# Altium footprint library IntegratedCircuites.PcbLib: 74 footprints (part 5 of 5)
Each footprint in its own frame and in the unit in brackets; x right, y up, seen from the top. Pads: shape width x height; smd on the part's side, far side on the other; paste and mask are expansions set on the pad; w line width, h text height; cw(c..) or ccw(c..) is an arc to the next point about the centre after c.
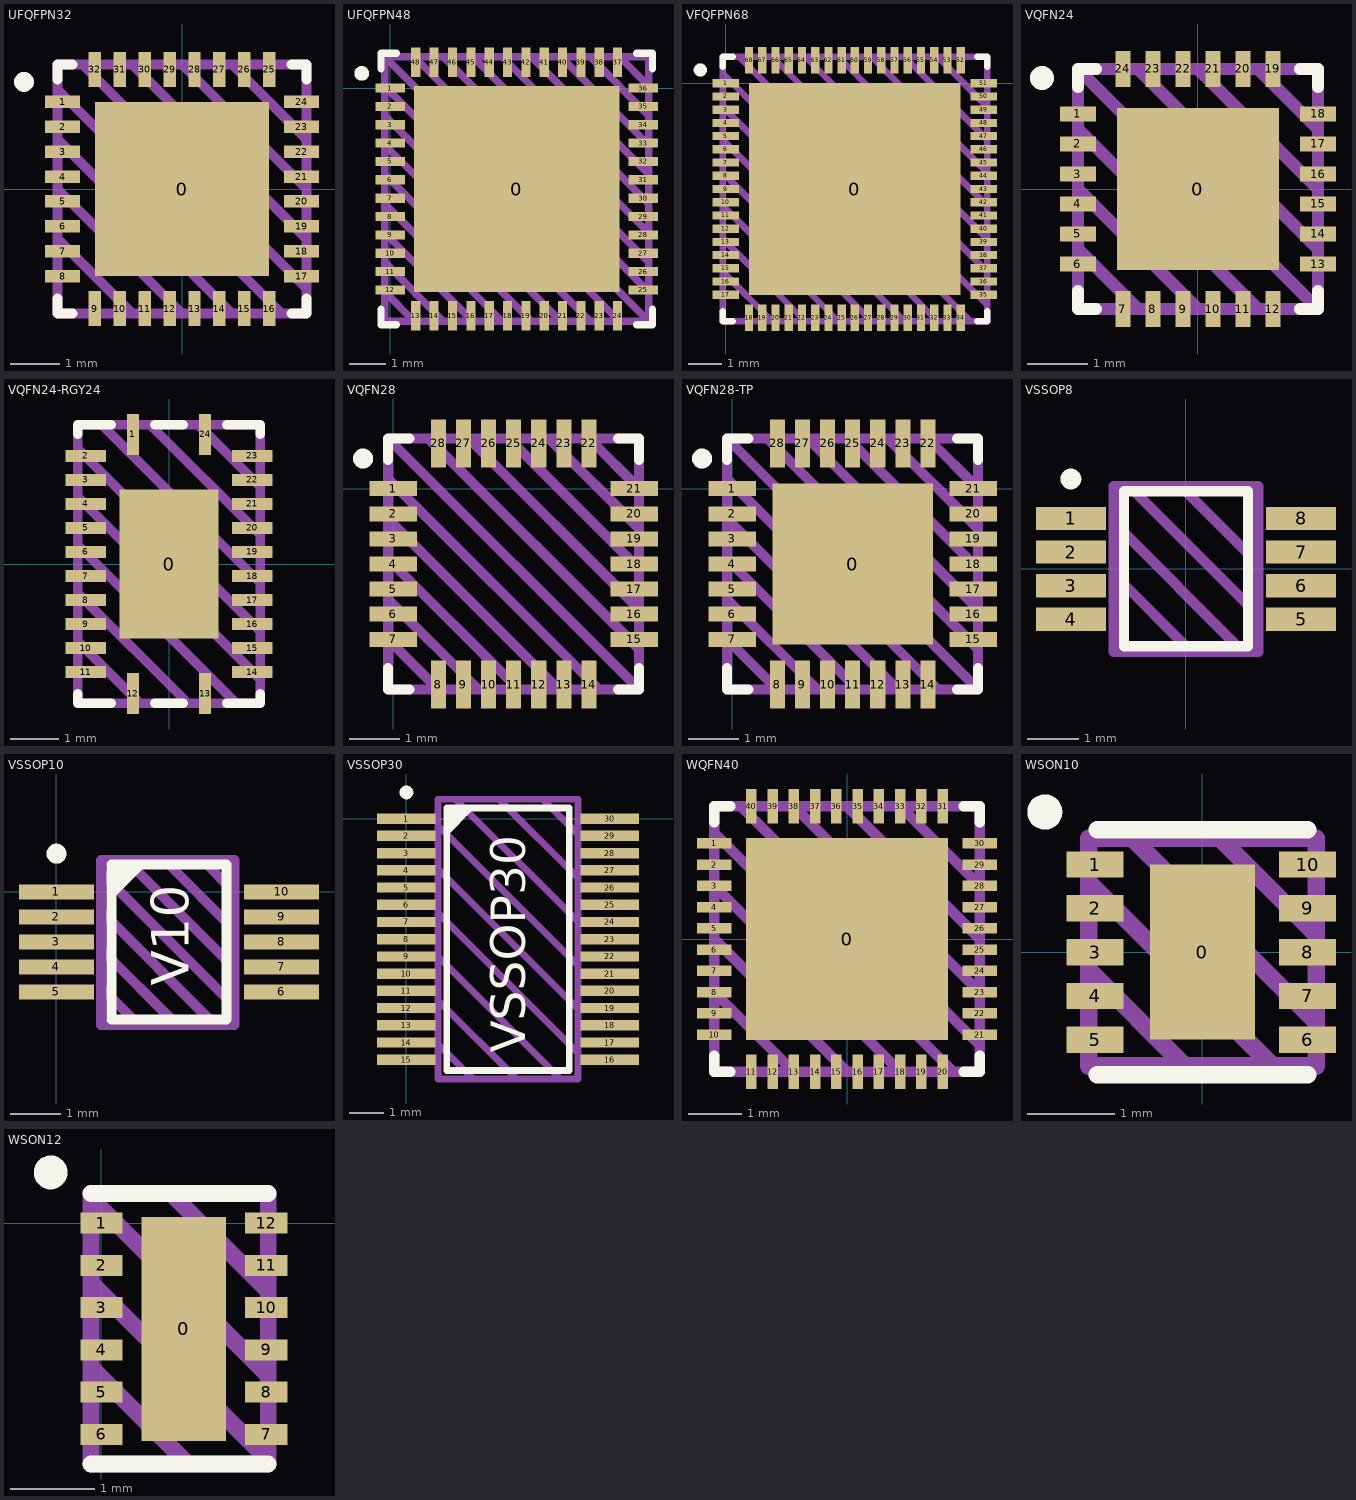
[diagram p4: the footprints below, top view; thin cyan lines are the x and y axes]

## UFQFPN32 [mm]
height 0.6
pads (33):
  rect 3.5x3.5 smd: 0(0,0)
  rect 0.7x0.25 smd: 1(-2.4,1.75) 2(-2.4,1.25) 3(-2.4,0.75) 4(-2.4,0.25) 5(-2.4,-0.25) 6(-2.4,-0.75) 7(-2.4,-1.25) 8(-2.4,-1.75) 17(2.4,-1.75) 18(2.4,-1.25) 19(2.4,-0.75) 20(2.4,-0.25) 21(2.4,0.25) 22(2.4,0.75) 23(2.4,1.25) 24(2.4,1.75)
  rect 0.25x0.7 smd: 9(-1.75,-2.4) 10(-1.25,-2.4) 11(-0.75,-2.4) 12(-0.25,-2.4) 13(0.25,-2.4) 14(0.75,-2.4) 15(1.25,-2.4) 16(1.75,-2.4) 25(1.75,2.4) 26(1.25,2.4) 27(0.75,2.4) 28(0.25,2.4) 29(-0.25,2.4) 30(-0.75,2.4) 31(-1.25,2.4) 32(-1.75,2.4)
Top Overlay:
  circle w0.2: c-3.175,2.15 r0.1
  lines w0.2: -2.5,-2.2 -2.5,-2.5 -2.2,-2.5 ; -2.5,2.2 -2.5,2.5 -2.2,2.5 ; 2.2,-2.5 2.5,-2.5 2.5,-2.2 ; 2.2,2.5 2.5,2.5 2.5,2.2
Top Draw:
  lines w0.2: -2.5,-1 -1,-2.5 ; -2.5,0 0,-2.5 ; -2.5,1 1,-2.5 ; -2.5,2 2,-2.5 ; -2,2.5 2.5,-2 ; -1,2.5 2.5,-1 ; 0,2.5 2.5,0 ; 1,2.5 2.5,1 ; -2.5,-2.5 -2.5,2.5 2.5,2.5 2.5,-2.5 -2.5,-2.5
Top Info:
  text "'.Comment'" at -2.549,-3.65 h0.6
3D body "QFN50P500X500X60_HS-33N.step": height 0.6, standoff 0, extent -2.51,-2.51 2.51,2.51

## UFQFPN48 [mm]
pads (49):
  rect 5.6x5.6 smd: 0(3.45,-2.75)
  rect 0.8x0.25 smd: 1(0,0) 2(0,-0.5) 3(0,-1) 4(0,-1.5) 5(0,-2) 6(0,-2.5) 7(0,-3) 8(0,-3.5) 9(0,-4) 10(0,-4.5) 11(0,-5) 12(0,-5.5) 25(6.9,-5.5) 26(6.9,-5) 27(6.9,-4.5) 28(6.9,-4) 29(6.9,-3.5) 30(6.9,-3) 31(6.9,-2.5) 32(6.9,-2) 33(6.9,-1.5) 34(6.9,-1) 35(6.9,-0.5) 36(6.9,0)
  rect 0.25x0.8 smd: 13(0.7,-6.2) 14(1.2,-6.2) 15(1.7,-6.2) 16(2.2,-6.2) 17(2.7,-6.2) 18(3.2,-6.2) 19(3.7,-6.2) 20(4.2,-6.2) 21(4.7,-6.2) 22(5.2,-6.2) 23(5.7,-6.2) 24(6.2,-6.2) 37(6.2,0.7) 38(5.7,0.7) 39(5.2,0.7) 40(4.7,0.7) 41(4.2,0.7) 42(3.7,0.7) 43(3.2,0.7) 44(2.7,0.7) 45(2.2,0.7) 46(1.7,0.7) 47(1.2,0.7) 48(0.7,0.7)
Top Overlay:
  circle w0.2: c-0.775,0.4 r0.1
  lines w0.2: -0.25,-6.025 -0.25,-6.45 0.175,-6.45 ; -0.25,0.525 -0.25,0.95 0.175,0.95 ; 6.725,-6.45 7.15,-6.45 7.15,-6.025 ; 6.725,0.95 7.15,0.95 7.15,0.525
Top Draw:
  lines w0.2: -0.15,-5.55 0.65,-6.35 ; -0.15,-4.75 1.45,-6.35 ; -0.15,-3.95 2.25,-6.35 ; -0.15,-3.15 3.05,-6.35 ; -0.15,-2.35 3.85,-6.35 ; -0.15,-1.55 4.65,-6.35 ; -0.15,-0.75 5.45,-6.35 ; -0.15,0.05 6.25,-6.35 ; 0.65,0.85 7.05,-5.55 ; 1.45,0.85 7.05,-4.75 ; 2.25,0.85 7.05,-3.95 ; 3.05,0.85 7.05,-3.15 ; 3.85,0.85 7.05,-2.35 ; 4.65,0.85 7.05,-1.55 ; 5.45,0.85 7.05,-0.75 ; 6.25,0.85 7.05,0.05 ; -0.15,0.85 -0.15,-6.35 7.05,-6.35 ; -0.15,0.85 7.05,0.85 7.05,-6.35 ; -0.15,0.85 7.05,-6.35
Top Info:
  text "'.Comment'" at 0.264,-7.787 h0.75
3D body "QFN50P700X700X60_HS-49N.step": height 0.6, standoff 0, extent -0.11,-6.31 7.01,0.81

## VFQFPN68 [mm]
height 1
pads (69):
  rect 6.4x6.4 smd: 0(3.9,-3.2)
  rect 0.8x0.25 smd: 1(0,0) 2(0,-0.4) 3(0,-0.8) 4(0,-1.2) 5(0,-1.6) 6(0,-2) 7(0,-2.4) 8(0,-2.8) 9(0,-3.2) 10(0,-3.6) 11(0,-4) 12(0,-4.4) 13(0,-4.8) 14(0,-5.2) 15(0,-5.6) 16(0,-6) 17(0,-6.4) 35(7.8,-6.4) 36(7.8,-6) 37(7.8,-5.6) 38(7.8,-5.2) 39(7.8,-4.8) 40(7.8,-4.4) 41(7.8,-4) 42(7.8,-3.6) 43(7.8,-3.2) 44(7.8,-2.8) 45(7.8,-2.4) 46(7.8,-2) 47(7.8,-1.6) 48(7.8,-1.2) 49(7.8,-0.8) 50(7.8,-0.4) 51(7.8,0)
  rect 0.25x0.8 smd: 18(0.7,-7.1) 19(1.1,-7.1) 20(1.5,-7.1) 21(1.9,-7.1) 22(2.3,-7.1) 23(2.7,-7.1) 24(3.1,-7.1) 25(3.5,-7.1) 26(3.9,-7.1) 27(4.3,-7.1) 28(4.7,-7.1) 29(5.1,-7.1) 30(5.5,-7.1) 31(5.9,-7.1) 32(6.3,-7.1) 33(6.7,-7.1) 34(7.1,-7.1) 52(7.1,0.7) 53(6.7,0.7) 54(6.3,0.7) 55(5.9,0.7) 56(5.5,0.7) 57(5.1,0.7) 58(4.7,0.7) 59(4.3,0.7) 60(3.9,0.7) 61(3.5,0.7) 62(3.1,0.7) 63(2.7,0.7) 64(2.3,0.7) 65(1.9,0.7) 66(1.5,0.7) 67(1.1,0.7) 68(0.7,0.7)
Top Overlay:
  circle w0.2: c-0.775,0.4 r0.1
  lines w0.2: -0.1,-6.9 -0.1,-7.2 0.2,-7.2 ; -0.1,0.5 -0.1,0.8 0.2,0.8 ; 7.6,-7.2 7.9,-7.2 7.9,-6.9 ; 7.6,0.8 7.9,0.8 7.9,0.5
Top Draw:
  lines w0.2: -0.1,-5.7 1.4,-7.2 ; -0.1,-4.7 2.4,-7.2 ; -0.1,-3.7 3.4,-7.2 ; -0.1,-2.7 4.4,-7.2 ; -0.1,-1.7 5.4,-7.2 ; -0.1,-0.7 6.4,-7.2 ; -0.1,0.3 7.4,-7.2 ; 0.4,0.8 7.9,-6.7 ; 1.4,0.8 7.9,-5.7 ; 2.4,0.8 7.9,-4.7 ; 3.4,0.8 7.9,-3.7 ; 4.4,0.8 7.9,-2.7 ; 5.4,0.8 7.9,-1.7 ; 6.4,0.8 7.9,-0.7 ; -0.1,-7.2 7.9,-7.2 7.9,0.8 -0.1,0.8 -0.1,-7.2
Top Info:
  text "'.Comment'" at 0.714,-8.637 h0.75
3D body "QFN40P800X800X100_HS-69N.step": height 1, standoff 0, extent -0.11,-7.21 7.91,0.81

## VQFN24 [mm]
height 1
pads (25):
  rect 2.7x2.7 smd: 0(0,0)
  rect 0.6x0.25 smd: 1(-2,1.25) 2(-2,0.75) 3(-2,0.25) 4(-2,-0.25) 5(-2,-0.75) 6(-2,-1.25) 13(2,-1.25) 14(2,-0.75) 15(2,-0.25) 16(2,0.25) 17(2,0.75) 18(2,1.25)
  rect 0.25x0.6 smd: 7(-1.25,-2) 8(-0.75,-2) 9(-0.25,-2) 10(0.25,-2) 11(0.75,-2) 12(1.25,-2) 19(1.25,2) 20(0.75,2) 21(0.25,2) 22(-0.25,2) 23(-0.75,2) 24(-1.25,2)
Top Overlay:
  circle w0.2: c-2.6,1.85 r0.1
  lines w0.2: -2,-1.7 -2,-2 -1.7,-2 ; -2,1.7 -2,2 -1.7,2 ; 1.7,-2 2,-2 2,-1.7 ; 1.7,2 2,2 2,1.7
Top Draw:
  lines w0.2: -2,-1 -1,-2 ; -2,0 0,-2 ; -2,1 1,-2 ; -1,2 2,-1 ; 0,2 2,0 ; 1,2 2,1 ; -2,2 2,2 2,-2 ; -2,2 -2,-2 2,-2 ; -2,2 2,-2
Top Info:
  text "'.Comment'" at -2.124,-3.092 h0.5
3D body "QFN50P400X400X100_HS-25N.step": height 1, standoff 0, extent -2.01,-2.01 2.01,2.01

## VQFN24-RGY24 [mm]
pads (25):
  rect 2.05x3.1 smd paste+0: 0(0,0)
  rect 0.25x0.85 smd paste+0: 1(-0.75,2.696) 12(-0.75,-2.696) 13(0.75,-2.696) 24(0.75,2.696)
  rect 0.85x0.25 smd paste+0: 2(-1.731,2.25) 3(-1.731,1.75) 4(-1.731,1.25) 5(-1.731,0.75) 6(-1.731,0.25) 7(-1.731,-0.25) 8(-1.731,-0.75) 9(-1.731,-1.25) 10(-1.731,-1.75) 11(-1.731,-2.25) 14(1.731,-2.25) 15(1.731,-1.75) 16(1.731,-1.25) 17(1.731,-0.75) 18(1.731,-0.25) 19(1.731,0.25) 20(1.731,0.75) 21(1.731,1.25) 22(1.731,1.75) 23(1.731,2.25)
Top Overlay:
  lines w0.2: -1.9,-2.7 -1.9,-2.9 -1.2,-2.9 ; -1.9,2.7 -1.9,2.9 -1.2,2.9 ; -0.3,-2.9 0.3,-2.9 ; -0.3,2.9 0.3,2.9 ; 1.2,-2.9 1.9,-2.9 1.9,-2.7 ; 1.2,2.9 1.9,2.9 1.9,2.7
Top Draw:
  lines w0.2: -1.9,-1.6 -0.6,-2.9 ; -1.9,-0.6 0.4,-2.9 ; -1.9,0.4 1.4,-2.9 ; -1.9,1.4 1.9,-2.4 ; -1.9,2.4 1.9,-1.4 ; -1.4,2.9 1.9,-0.4 ; -0.4,2.9 1.9,0.6 ; 0.6,2.9 1.9,1.6 ; -1.9,-2.9 -1.9,2.9 1.9,2.9 1.9,-2.9 -1.9,-2.9
Top Info:
  text "'.Comment'" at -2.124,-3.892 h0.5
3D body "RGY24.step": height 1, standoff 0, extent -1.876,-2.876 1.876,2.876

## VQFN28 [mm] "MLP28"
pads (28):
  rect 0.95x0.3 smd: 1(0,0) 2(0,-0.5) 3(0,-1) 4(0,-1.5) 5(0,-2) 6(0,-2.5) 7(0,-3) 15(4.8,-3) 16(4.8,-2.5) 17(4.8,-2) 18(4.8,-1.5) 19(4.8,-1) 20(4.8,-0.5) 21(4.8,0)
  rect 0.3x0.95 smd: 8(0.9,-3.9) 9(1.4,-3.9) 10(1.9,-3.9) 11(2.4,-3.9) 12(2.9,-3.9) 13(3.4,-3.9) 14(3.9,-3.9) 22(3.9,0.9) 23(3.4,0.9) 24(2.9,0.9) 25(2.4,0.9) 26(1.9,0.9) 27(1.4,0.9) 28(0.9,0.9)
Top Overlay:
  circle w0.2: c-0.6,0.6 r0.1
  lines w0.2: -0.1,-3.575 -0.1,-4 0.325,-4 ; -0.1,0.575 -0.1,1 0.325,1 ; 4.475,-4 4.9,-4 4.9,-3.575 ; 4.475,1 4.9,1 4.9,0.575
Top Draw:
  lines w0.2: -0.1,-3 0.9,-4 ; -0.1,-2.2 1.7,-4 ; -0.1,-1.4 2.5,-4 ; -0.1,-0.6 3.3,-4 ; -0.1,0.2 4.1,-4 ; 0.7,1 4.9,-3.2 ; 1.5,1 4.9,-2.4 ; 2.3,1 4.9,-1.6 ; 3.1,1 4.9,-0.8 ; 3.9,1 4.9,0 ; -0.1,1 4.9,-4 ; -0.1,1 -0.1,-4 4.9,-4 ; -0.1,1 4.9,1 4.9,-4
Top Info:
  text "'.Comment'" at 0.276,-5.192 h0.5
3D body "PQFN50P500X500X100_HS-29N.step": height 1, standoff 0, extent -0.1,-4 4.9,1

## VQFN28-TP [mm] "MLP28"
pads (29):
  rect 3.2x3.2 smd: 0(2.4,-1.5)
  rect 0.95x0.3 smd: 1(0,0) 2(0,-0.5) 3(0,-1) 4(0,-1.5) 5(0,-2) 6(0,-2.5) 7(0,-3) 15(4.8,-3) 16(4.8,-2.5) 17(4.8,-2) 18(4.8,-1.5) 19(4.8,-1) 20(4.8,-0.5) 21(4.8,0)
  rect 0.3x0.95 smd: 8(0.9,-3.9) 9(1.4,-3.9) 10(1.9,-3.9) 11(2.4,-3.9) 12(2.9,-3.9) 13(3.4,-3.9) 14(3.9,-3.9) 22(3.9,0.9) 23(3.4,0.9) 24(2.9,0.9) 25(2.4,0.9) 26(1.9,0.9) 27(1.4,0.9) 28(0.9,0.9)
Top Overlay:
  circle w0.2: c-0.6,0.6 r0.1
  lines w0.2: -0.1,-3.575 -0.1,-4 0.325,-4 ; -0.1,0.575 -0.1,1 0.325,1 ; 4.475,-4 4.9,-4 4.9,-3.575 ; 4.475,1 4.9,1 4.9,0.575
Top Draw:
  lines w0.2: -0.1,-3 0.9,-4 ; -0.1,-2.2 1.7,-4 ; -0.1,-1.4 2.5,-4 ; -0.1,-0.6 3.3,-4 ; -0.1,0.2 4.1,-4 ; 0.7,1 4.9,-3.2 ; 1.5,1 4.9,-2.4 ; 2.3,1 4.9,-1.6 ; 3.1,1 4.9,-0.8 ; 3.9,1 4.9,0 ; -0.1,1 4.9,-4 ; -0.1,1 -0.1,-4 4.9,-4 ; -0.1,1 4.9,1 4.9,-4
Top Info:
  text "'.Comment'" at 0.276,-5.192 h0.5
3D body "PQFN50P500X500X100_HS-29N.step": height 1, standoff 0, extent -0.1,-4 4.9,1

## VSSOP8 [mm]
height 1.1
pads (8):
  rect 1.35x0.45 smd: 1(-2.225,0.975) 2(-2.225,0.325) 3(-2.225,-0.325) 4(-2.225,-0.975) 5(2.225,-0.975) 6(2.225,-0.325) 7(2.225,0.325) 8(2.225,0.975)
Top Overlay:
  circle w0.2: c-2.225,1.737 r0.1
  lines w0.2: -1.2,-1.5 -1.2,1.5 1.2,1.5 1.2,-1.5 -1.2,-1.5
Top Draw:
  lines w0.2: -1.4,-0.1 0.1,-1.6 ; -1.4,0.9 1.1,-1.6 ; -1.1,1.6 1.4,-0.9 ; -0.1,1.6 1.4,0.1 ; -1.4,-1.6 -1.4,1.6 1.4,1.6 1.4,-1.6 -1.4,-1.6
Top Info:
  text "'.Comment'" at -2.124,-2.451 h0.5
3D body "TSOP65P490X110-8N.step": height 1.1, standoff 0, extent -2.45,-1.55 2.45,1.55

## VSSOP10 [mm]
height 1.1
pads (10):
  rect 1.5x0.3 smd: 1(0,0) 2(0,-0.5) 3(0,-1) 4(0,-1.5) 5(0,-2) 6(4.5,-2) 7(4.5,-1.5) 8(4.5,-1) 9(4.5,-0.5) 10(4.5,0)
Top Overlay:
  circle w0.2: c0,0.762 r0.1
  region: 1.107,0.54 1.107,-0.163 1.81,0.54
  lines w0.2: 1.1,-2.55 1.1,0.55 3.4,0.55 3.4,-2.55 1.1,-2.55
  text "V10" at 2.644,-1.882 h0.75
Top Draw:
  lines w0.2: 0.889,-1.905 1.651,-2.667 ; 0.889,-1.143 2.413,-2.667 ; 0.889,-0.381 3.175,-2.667 ; 0.889,0.381 3.556,-2.286 ; 1.397,0.635 3.556,-1.524 ; 2.159,0.635 3.556,-0.762 ; 2.921,0.635 3.556,0 ; 0.889,-2.667 3.556,-2.667 3.556,0.635 0.889,0.635 0.889,-2.667
Top Info:
  text "'.Comment'" at 0.176,-3.492 h0.5
3D body "VSSOP10.step": height 1.1, standoff 0, extent -0.262,-2.55 4.763,0.55

## VSSOP30 [mm]
height 1.2
pads (30):
  rect 1.7x0.3 smd: 1(0,0) 2(0,-0.5) 3(0,-1) 4(0,-1.5) 5(0,-2) 6(0,-2.5) 7(0,-3) 8(0,-3.5) 9(0,-4) 10(0,-4.5) 11(0,-5) 12(0,-5.5) 13(0,-6) 14(0,-6.5) 15(0,-7) 16(5.9,-7) 17(5.9,-6.5) 18(5.9,-6) 19(5.9,-5.5) 20(5.9,-5) 21(5.9,-4.5) 22(5.9,-4) 23(5.9,-3.5) 24(5.9,-3) 25(5.9,-2.5) 26(5.9,-2) 27(5.9,-1.5) 28(5.9,-1) 29(5.9,-0.5) 30(5.9,0)
Top Overlay:
  circle w0.2: c0,0.762 r0.1
  region: 1.15,0.275 1.15,-0.519 1.944,0.275
  lines w0.2: 1.172,-7.31 4.728,-7.31 4.728,0.31 1.172,0.31 1.172,-7.31
  text "VSSOP30" at 3.458,-6.802 h1
Top Draw:
  lines w0.2: 0.918,-6.548 1.934,-7.564 ; 0.918,-5.278 3.204,-7.564 ; 0.918,-4.008 4.474,-7.564 ; 0.918,-2.738 4.982,-6.802 ; 0.918,-1.468 4.982,-5.532 ; 0.918,-0.198 4.982,-4.262 ; 1.426,0.564 4.982,-2.992 ; 2.696,0.564 4.982,-1.722 ; 3.966,0.564 4.982,-0.452 ; 0.918,-7.564 4.982,-7.564 4.982,0.564 1.172,0.564 0.918,0.564 0.918,0.31 0.918,-7.564
Top Info:
  text "'.Comment'" at -0.186,-8.637 h0.75
3D body "TSSOP30.step": height 1.2, standoff 0, extent -0.25,-7.45 6.15,0.45

## WQFN40 [mm]
height 0.8
pads (41):
  rect 3.8x3.8 smd: 0(0,0)
  rect 0.65x0.2 smd: 1(-2.5,1.8) 2(-2.5,1.4) 3(-2.5,1) 4(-2.5,0.6) 5(-2.5,0.2) 6(-2.5,-0.2) 7(-2.5,-0.6) 8(-2.5,-1) 9(-2.5,-1.4) 10(-2.5,-1.8) 21(2.5,-1.8) 22(2.5,-1.4) 23(2.5,-1) 24(2.5,-0.6) 25(2.5,-0.2) 26(2.5,0.2) 27(2.5,0.6) 28(2.5,1) 29(2.5,1.4) 30(2.5,1.8)
  rect 0.2x0.65 smd: 11(-1.8,-2.5) 12(-1.4,-2.5) 13(-1,-2.5) 14(-0.6,-2.5) 15(-0.2,-2.5) 16(0.2,-2.5) 17(0.6,-2.5) 18(1,-2.5) 19(1.4,-2.5) 20(1.8,-2.5) 31(1.8,2.5) 32(1.4,2.5) 33(1,2.5) 34(0.6,2.5) 35(0.2,2.5) 36(-0.2,2.5) 37(-0.6,2.5) 38(-1,2.5) 39(-1.4,2.5) 40(-1.8,2.5)
Top Overlay:
  lines w0.2: -2.5,-2.2 -2.5,-2.5 -2.2,-2.5 ; -2.5,2.2 -2.5,2.5 -2.2,2.5 ; 2.2,-2.5 2.5,-2.5 2.5,-2.2 ; 2.2,2.5 2.5,2.5 2.5,2.2
Top Draw:
  lines w0.2: -2.5,-1 -1,-2.5 ; -2.5,0 0,-2.5 ; -2.5,1 1,-2.5 ; -2.5,2 2,-2.5 ; -2,2.5 2.5,-2 ; -1,2.5 2.5,-1 ; 0,2.5 2.5,0 ; 1,2.5 2.5,1 ; -2.5,-2.5 -2.5,2.5 2.5,2.5 2.5,-2.5 -2.5,-2.5
Top Info:
  text "'.Comment'" at -3.186,-3.937 h0.75
3D body "QFN40P500X500X80_HS-41N.step": height 0.8, standoff 0, extent -2.51,-2.51 2.51,2.51

## WSON10 [mm]
height 0.8
pads (11):
  rect 1.2x2 smd: 0(0,0)
  rect 0.65x0.3 smd: 1(-1.225,1) 2(-1.225,0.5) 3(-1.225,0) 4(-1.225,-0.5) 5(-1.225,-1) 6(1.2,-1) 7(1.2,-0.5) 8(1.2,0) 9(1.2,0.5) 10(1.2,1)
Top Overlay:
  circle w0.2: c-1.8,1.6 r0.1
  lines w0.2: -1.2,-1.4 1.2,-1.4 ; -1.2,1.4 1.2,1.4
Top Draw:
  lines w0.2: -1.3,-0.2 -0.2,-1.3 ; -1.3,0.8 0.8,-1.3 ; -0.8,1.3 1.3,-0.8 ; 0.2,1.3 1.3,0.2 ; -1.3,-1.3 -1.3,1.3 1.3,1.3 1.3,-1.3 -1.3,-1.3
Top Info:
  text "'.Comment'" at -2.124,-2.192 h0.5
3D body "PSON50P250X80_HS-11N.step": height 0.8, standoff 0, extent -1.301,-1.3 1.301,1.3

## WSON12 [mm]
height 0.8
pads (13):
  rect 1x2.65 smd: 0(0.975,-1.25)
  rect 0.5x0.25 smd: 1(0,0) 2(0,-0.5) 3(0,-1) 4(0,-1.5) 5(0,-2) 6(0,-2.5) 7(1.95,-2.5) 8(1.95,-2) 9(1.95,-1.5) 10(1.95,-1) 11(1.95,-0.5) 12(1.95,0)
Top Overlay:
  circle w0.2: c-0.6,0.6 r0.1
  lines w0.2: -0.125,-2.85 1.975,-2.85 ; -0.125,0.35 1.975,0.35
Top Draw:
  lines w0.2: -0.125,-1.7 1.025,-2.85 ; -0.125,-0.7 1.975,-2.8 ; -0.125,0.3 1.975,-1.8 ; 0.825,0.35 1.975,-0.8 ; -0.125,-2.85 1.975,-2.85 1.975,0.35 -0.125,0.35 -0.125,-2.85
Top Info:
  text "'.Comment'" at -1.149,-3.642 h0.5
3D body "PSON50P210X80_HS-13N.step": height 0.8, standoff 0, extent -0.076,-2.8 2.026,0.3